# Altium footprint library Adams Altium Library.PcbLib: 250 footprints (part 5 of 16)
Each footprint in its own frame and in the unit in brackets; x right, y up, seen from the top. Pads: shape width x height; smd on the part's side, far side on the other; paste and mask are expansions set on the pad; w line width, h text height; cw(c..) or ccw(c..) is an arc to the next point about the centre after c.
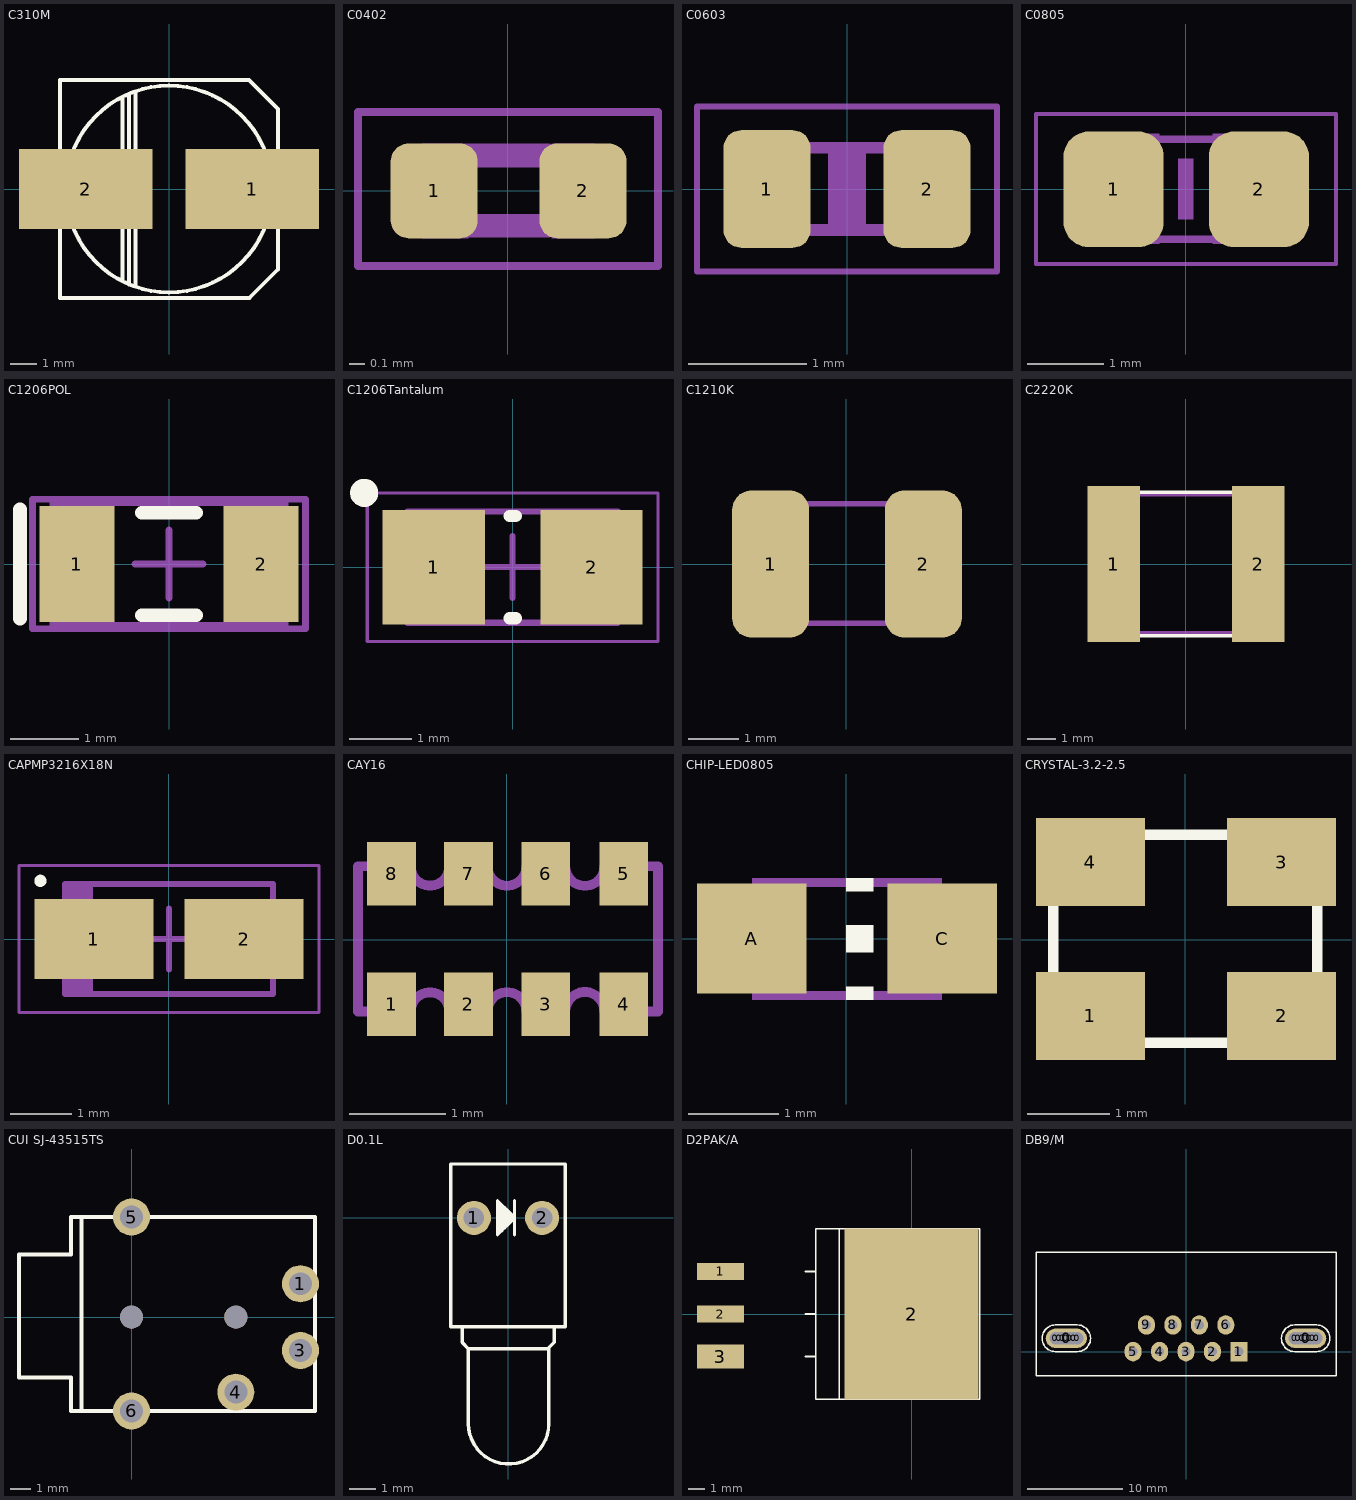
[diagram p4: the footprints below, top view; thin cyan lines are the x and y axes]

## C310M [mil]
pads (2):
  rect 200x120 smd paste-23.62 mask-23.62: 1(125,0) 2(-125,0)
Top Overlay:
  lines w6: -163.39,-55.35 -163.39,-163.39 110,-163.39 120.39,-163.39 163.39,-120.39 163.39,-96 ; -163.39,51.3 -163.39,163.39 115,163.39 120,163.39 163.39,120 163.39,50 ; -145.65,-53.01 ccw(c0,0) 145.65,-53.01 ; -145.65,53.01 cw(c0,0) 145.65,53.01 ; -70,-138 -70,137 ; -60,-143 -60,140 ; -50,-145 -50,144 ; 163.39,-115 163.39,-50

## C0402 [mil]
pads (2):
  rrect40% 22x24 smd: 1(-18.7,0) 2(19,0)
Mechanical 16:
  rectangle: -21.8,-12 -9.98,12
  rectangle: 11,-12 22,12
  lines w2: -37.99,-19.02 38,-19.02 38,20 -37.99,20 -37.99,-19.02
  lines w6: -9.65,-8.82 10,-8.82 ; -9.65,9 10,9
3D body: height 19.68, standoff 0, extent -20,-10 20,10

## C0603 [mm]
pads (2):
  rrect40% 0.74x1 smd: 1(-0.68,0) 2(0.68,0)
Mechanical 6:
  rectangle: -0.16,-0.3 0.16,0.3
Mechanical 16:
  rectangle: -0.8,-0.4 -0.45,0.4
  rectangle: 0.45,-0.4 0.8,0.4
  lines w0.051: -1.275,-0.7 1.275,-0.7 1.275,0.7 -1.275,0.7 -1.275,-0.7
  lines w0.1: -0.45,0.35 0.45,0.35
  lines w0.102: -0.45,-0.35 0.45,-0.35
3D body: height 0.8, standoff 0, extent -0.8,-0.4 0.8,0.4

## C0805 [mil]
pads (2):
  rrect50% 52x60 smd: 1(-37.4,0) 2(38,0)
Mechanical 6:
  rectangle: -3.94,-15.75 4,16
Mechanical 16:
  rectangle: 14,-28.5 44,29
  rectangle: -43,-28.5 -13.47,29
  lines w2: -77.68,-38.7 -77.68,39 78,39 78,-38.7 -77.68,-38.7
  lines w4: -15,26 15,26 ; -14.02,-25.98 15,-25.98
3D body: height 35.43, standoff 0, extent -40,-30 40,30

## C1206POL [mm] "Chip Capacitor, Body 3.2x1.6mm, IPC High Density"
height 1.3
pads (2):
  rect 1.1x1.7 smd: 1(-1.35,0) 2(1.35,0)
Top Overlay:
  lines w0.2: -2.184,-0.8 -2.184,0 -2.184,0.8 ; -0.4,-0.75 0.4,-0.75 ; -0.4,0.75 0.4,0.75
Mechanical 13:
  lines w0.1: -1.7,-0.9 1.7,-0.9 1.7,0.9 -1.7,0.9 -1.7,-0.9
Mechanical 15:
  lines w0.1: -0.5,0 0.5,0 ; 0,-0.5 0,0.5 ; -2,-0.95 2,-0.95 2,0.95 -2,0.95 -2,-0.95
3D body: height 1.3, standoff 0, extent -1.7,-0.9 1.7,0.9

## C1206Tantalum [mm] "Chip Capacitor, 2-Leads, Body 3.20x1.60mm, IPC Medium Density"
height 1.8
pads (2):
  rect 1.65x1.85 smd: 1(-1.275,0) 2(1.275,0)
Top Overlay:
  circle w0.254: c-2.4,1.2 r0.1
  lines w0.2: -0.05,-0.825 0.05,-0.825 ; -0.05,0.825 0.05,0.825
Mechanical 13:
  lines w0.1: -1.7,-0.9 1.7,-0.9 1.7,0.9 -1.7,0.9 -1.7,-0.9
Mechanical 15:
  lines w0.05: -2.35,-1.2 2.35,-1.2 2.35,1.2 -2.35,1.2 -2.35,-1.2
  lines w0.1: -0.5,0 0.5,0 ; 0,-0.5 0,0.5
3D body: height 1.8, standoff 0, extent 0.85,-0.9 1.7,0.9
3D body: height 1.8, standoff 0, extent -1.7,-0.9 -0.85,0.9
3D body: height 1.8, standoff 0, extent -0.85,-0.9 0.85,0.9

## C1210K [mil]
pads (2):
  rrect50% 60x115 smd: 1(-59.06,0) 2(60,0)
Mechanical 16:
  rectangle: 44,-49.21 63,50
  rectangle: -62.99,-49.21 -43.31,50
  lines w4: -60.04,-46.26 61,-46.26 ; -60.04,47 61,47
3D body: height 51.18, standoff 0, extent -70,-55 70,55

## C2220K [mil]
pads (2):
  rect 73x217 smd: 1(-100.39,0) 2(101,0)
Top Overlay:
  lines w5: -125,-100 125,-100 125,100 -125,100 -125,-100
Mechanical 16:
  rectangle: -110.24,-98.43 -86.61,99
  rectangle: 87,-98.43 111,99
  lines w4: -107.28,-95.47 108,-95.47 ; -107.28,96 108,96
3D body: height 57.09, standoff 0, extent -110.24,-98.43 111,99

## CAPMP3216X18N [mm] "Molded Capacitor, 2-Leads, Body 3.20x1.60mm, IPC Medium Density"
height 1.8
pads (2):
  rect 1.95x1.3 smd: 1(-1.225,0) 2(1.225,0)
Top Overlay:
  circle w0.1: c-2.1,0.95 r0.05
Mechanical 13:
  rectangle: -1.7,-0.9 -1.243,0.9
  lines w0.1: -1.7,-0.9 -1.7,0.9 1.7,0.9 1.7,-0.9 -1.7,-0.9
Mechanical 15:
  lines w0.05: -2.45,-1.2 -2.45,1.2 2.45,1.2 2.45,-1.2 -2.45,-1.2
  lines w0.1: -0.5,0 0.5,0 ; 0,-0.5 0,0.5
3D body: height 1.8, standoff 0, extent -1.7,-0.9 1.7,0.9

## CAY16 [mil]
pads (8):
  rect 20x26 smd: 1(-47.24,-26.57) 2(-15.75,-26.57) 3(16,-26.57) 4(48,-26.57) 5(48,27) 6(16,27) 7(-15.75,27) 8(-47.24,27)
Mechanical 16:
  lines w4: -61.02,-29.53 -61.02,30 -39.37,30 ccw(c-31.5,30) -23.62,30 -7.87,30 ccw(c0.06,30) 8,30 24,30 ccw(c32,30) 40,30 62,30 62,-29.53 40,-29.53 ccw(c32,-29.53) 24,-29.53 8,-29.53 ccw(c0.06,-29.53) -7.87,-29.53 -23.62,-29.53 ccw(c-31.5,-29.53) -39.37,-29.53 -61.02,-29.53
3D body: height 19.68, standoff 0, extent -61.04,-29.55 62.02,30.02

## CHIP-LED0805 [mil]
pads (2):
  rect 48x48 smd: A(-41.34,0) C(42,0)
Top Overlay:
  region: 0,5.9 0,-6 12,-6 12,5.9
  region: 0,-21 0,-27 12,-27 12,-21
  region: 0,26.57 0,20.67 12,20.67 12,26.57
Mechanical 16:
  region: -41.34,26.58 -41.34,-27 -17.72,-27 -17.72,26.57
  region: 18,26.58 18,-27 42,-27 42,26.58
  lines w4: -18.7,-25 18,-25 ; -17.72,24.61 18,24.61
3D body: height 11.81, standoff 0, extent -50,-25 50,25
3D body: height 27.56, standoff 0, extent -30,-25 30,25
3D body: height 15.75, standoff 0, extent 20,-10 35,10

## CRYSTAL-3.2-2.5 [mil]
pads (4):
  rect 52x42 smd: 1(-45.28,-36.42) 2(46,-36.42) 3(46,37) 4(-45.28,37)
Top Overlay:
  lines w5: -62.99,-49.21 -62.99,50 63,50 63,-49.21 -62.99,-49.21
3D body: height 27.56, standoff 0, extent -62.97,-49.19 62.98,49.98

## CUI SJ-43515TS [mm]
pads (7):
  round 1.778 hole 1.1: 1(8.1,1.6) 3(8.1,-1.6) 4(5,-3.6) 5(0,4.8) 6(0,-4.5)
  round 1.1 hole 1.1: ""(0,0) ""(5,0)
Top Overlay:
  lines w0.2: -2.4,-4.4 -2.4,4.7 ; -0.7,-4.5 -2.9,-4.5 -2.9,-2.9 -5.4,-2.9 -5.4,0 -5.4,3 -2.9,3 -2.9,4.8 -0.7,4.8 ; 0.7,-4.5 8.8,-4.5 8.8,4.8 8.6,4.8 0.7,4.8

## D0.1L [mil]
pads (2):
  round 50 hole 30: 1(-50,0) 2(50,0)
Top Overlay:
  lines w5: -67,-160 -67,-182.83 -58.11,-191.72 ; -12.66,22.21 -12.66,-18.79 -9.23,-18.79 -9.23,18.79 ; -8.23,-2 9.55,-2 ; -7.38,-16.93 -7.38,16.93 ; -5,-14.55 -5,14.55 ; -2.04,-11.59 -2.04,11.59 ; -2.04,1 9.55,1 ; 1.18,-8.37 1.18,8.37 ; 2.14,-7.42 2.14,7.42 ; 9.55,-25 9.55,25 ; 69,-160 68,-161 68,-182.39 60,-190.39 ; -58.11,-191.72 58.68,-191.72 60,-190.39 ; -58.11,-191.72 -58.11,-302 ccw(c0.94,-302) 60,-302 60,-190.39 ; -84,-160 84,-160 84,79 -84,79 -84,-160 ; -15.45,-25 9.55,0 -15.45,25 -15.45,-25

## D2PAK/A [mm]
pads (4):
  rect 2.8x1 smd: 1(-11.4,2.54) 2(-11.4,0)
  rect 8x10.2 smd: 2(0,0)
  rect 2.8x1.42 smd: 3(-11.4,-2.54)
Top Overlay:
  lines w0.1: -6.35,-2.54 -5.715,-2.54 ; -6.35,0 -5.715,0 ; -6.35,2.54 -5.715,2.54 ; -4.318,-5.08 -4.318,5.08 ; -5.715,-5.08 -5.715,5.08 4.064,5.08 4.064,4.572 4.064,2.794 4.064,-2.921 4.064,-4.318 4.064,-5.08 -5.715,-5.08

## DB9/M [mil]
pads (25):
  round 50 hole 50: 0(-538,55) 0(-523,55) 0(-508,55) 0(-493,55) 0(-478,55) 0(-463,55) 0(-448,55) 0(448,55) 0(463,55) 0(478,55) 0(493,55) 0(508,55) 0(523,55) 0(538,55)
  oval 170x80 hole 50: 0(-493,55) 0(493,55)
  rect 70x80 hole 38: 1(218,0)
  oval 70x80 hole 38: 2(109,0) 3(0,0) 4(-109,0) 5(-218,0) 6(164,110) 7(55,110) 8(-54,110) 9(-163,110)
Top Overlay:
  lines w6: -618,-100 -618,410 618,410 618,-100 -618,-100 ; -538,0 cw(c-538,55) -538,110 -448,110 cw(c-448,55) -448,0 -538,0 ; 448,0 cw(c448,55) 448,110 538,110 cw(c538,55) 538,0 448,0